# Altium footprint library SM_C_0603_TRACETHRU.PcbLib: 1 footprints
Each footprint in its own frame and in the unit in brackets; x right, y up, seen from the top. Pads: shape width x height; smd on the part's side, far side on the other; paste and mask are expansions set on the pad; w line width, h text height; cw(c..) or ccw(c..) is an arc to the next point about the centre after c.
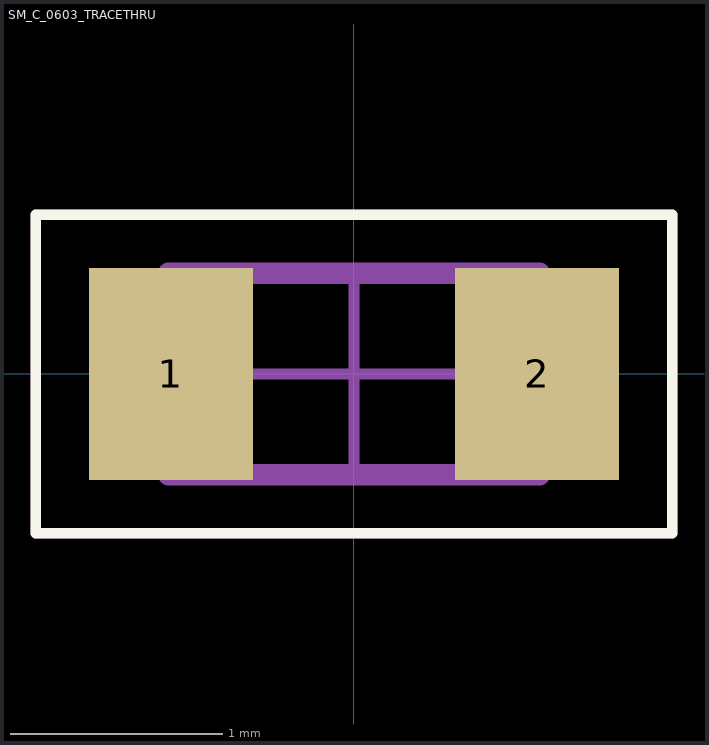
[diagram p0: the footprint, top view; thin cyan lines are the x and y axes]

## SM_C_0603_TRACETHRU [mm] "Allows Trace To Go Inbetween Pads"
pads (2):
  rect 0.773x1 smd: 1(-0.863,0) 2(0.863,0)
Top Overlay:
  lines w0.05: -1.5,-0.75 1.5,-0.75 1.5,0.75 -1.5,0.75 -1.5,-0.75
Mechanical 13:
  lines w0.1: -0.875,-0.475 0.875,-0.475 0.875,0.475 -0.875,0.475 -0.875,-0.475
Mechanical 15:
  lines w0.05: -0.475,0 0.475,0 ; 0,-0.475 0,0.475 ; -1.5,-0.75 1.5,-0.75 ; -1.5,-0.75 -1.5,0.75 ; -1.5,-0.75 1.5,-0.75 ; -1.5,-0.75 -1.5,0.75 ; -1.5,0.75 1.5,0.75 ; -1.5,0.75 1.5,0.75 ; 1.5,-0.75 1.5,0.75 ; 1.5,-0.75 1.5,0.75
3D body: height 0.55, standoff 0, extent 0.525,-0.475 0.875,0.475
3D body: height 0.55, standoff 0, extent -0.875,-0.475 -0.525,0.475
3D body: height 0.55, standoff 0, extent -0.525,-0.475 0.525,0.475